# Altium integrated library DIPLOM.IntLib: 12 symbols
Pins are listed as number, name and electrical type; pins without a type are passive.

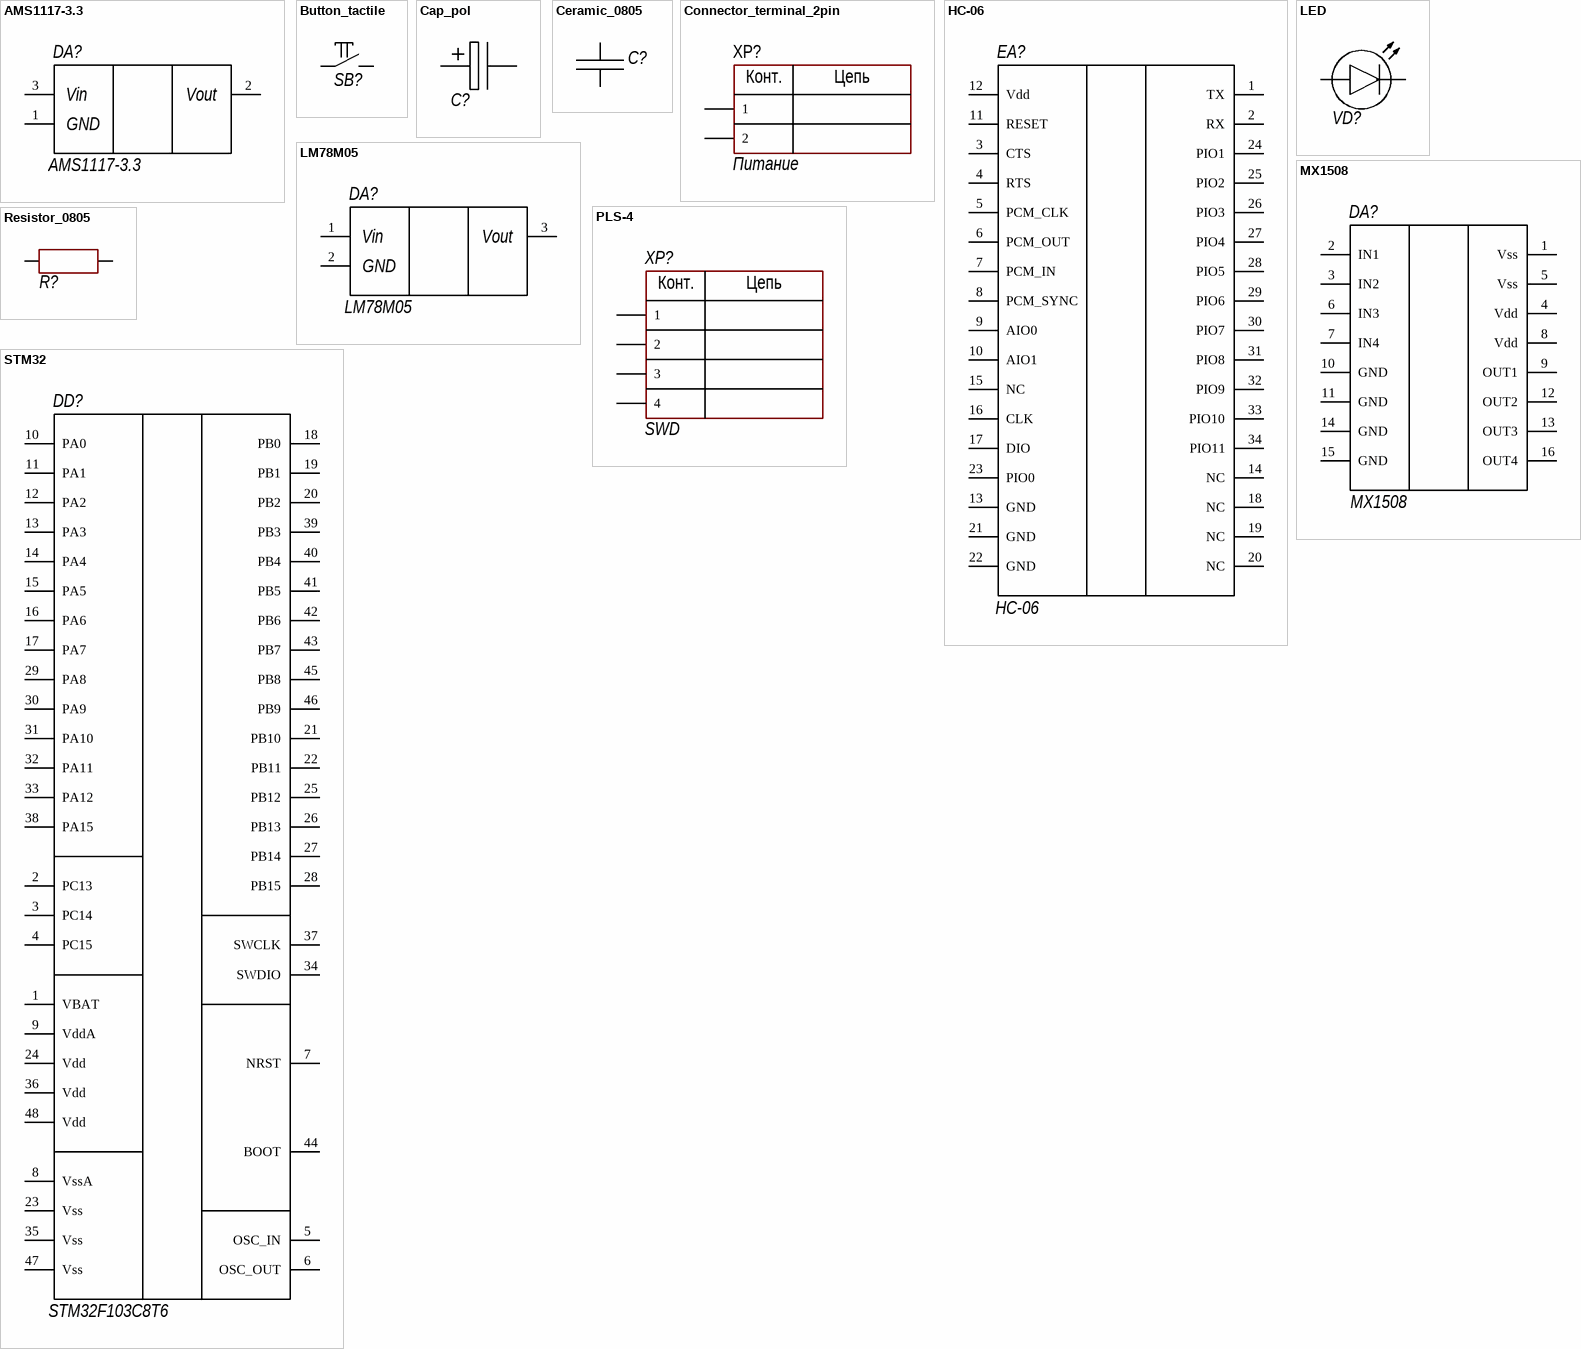
[diagram p0: symbols AMS1117-3.3 to STM32]

## AMS1117-3.3
designator DA?
footprint SOT-223 (SOT-223/SC-73; 4 Leads; Body 6.7 x 7.3 mm, inc. leads (LxW max))
pins: 1, 2, 3
text: Vin; Vout; GND

## Button_tactile
designator SB?
Manufacturer: TE Connectivity; ValueManufacturerPartNumber: Tactile button, 6x6mm; PartNumber: FSM2JSMAATR; TypeButton: Tactile button; CommentText: "Кнопка"; HelpURL: https://www.digikey.com/product-detail/en/te-connectivity-alcoswitch-switches/FSM2JSMAATR/450-1792-1-ND/3503931; Package: 6x6mm
footprint BUT: 6x6 (Leaded Tactile Button 6x6)
footprint BUT: 6x6 SMD (Leaded Tactile Button 6x6)
footprint BUT: SKQGADE010
pins: 1, 2

## Cap_pol
designator C?  (value not drawn)
footprint Cap_smd
pins: 1 3, 2 4

## Ceramic_0805
designator C?
Manufacturer: Yageo; PartNumber: CC0805KRX7R7BB104; ValueManufacturerPartNumber: Ceramic capacitor, 0,33 мкФ, X7R, ±10%, 50 В, 0805, -55...+125°C; TypeCapacitor: Ceramic capacitor; Tolerance: ±10%; TypeDielectric: X7R; Voltage: 50 В; Value: 0,33 мкФ; Package: 0805; HelpURL: https://www.digikey.com/product-detail/en/yageo/CC0805KRX7R7BB104/311-1142-1-ND/303052; Temperature: -55...+125°C
footprint CAP: 0805
pins: 1 (power), 2 (power)

## Connector_terminal_2pin
designator XP?  CommentText: Питание
Manufacturer: Degson; ValueManufacturerPartNumber: Terminal connector, 2pin, 3.5mm, 300VAC, 10A; PartNumber: DG350-3.5-02P-14; TypeConnector: Terminal connector; VoltageMax: 300VAC; Pitch: 3.5mm; CurrentMax: 10A; Multichannel: 2pin; HelpURL: https://www.chipdip.ru/product/dg350-3.5-02p-12
footprint CON: 1911017 (Phoenix)
footprint CON: 0395430002 (5 mm) (2 pin 5.08mm screw connector)
footprint CON: DG350-3.5-02P
footprint Conector 2.54
pins: 1, 2
text: Конт.; Цепь

## HC-06
designator EA?
footprint HC-06
pins: 1 TX, 2 RX, 3 CTS, 4 RTS, 5 PCM_CLK, 6 PCM_OUT, 7 PCM_IN, 8 PCM_SYNC, 9 AIO0, 10 AIO1, 11 RESET, 12 Vdd, 13 GND, 14 NC, 15 NC, 16 CLK, 17 DIO, 18 NC, 19 NC, 20 NC, 21 GND, 22 GND, 23 PIO0, 24 PIO1, 25 PIO2, 26 PIO3, 27 PIO4, 28 PIO5, 29 PIO6, 30 PIO7, 31 PIO8, 32 PIO9, 33 PIO10, 34 PIO11

## LED
designator VD?  (value not drawn)
footprint LD0805
footprint LD1206
pins: 1 A, 2 K

## LM78M05
designator DA?
footprint TO252
pins: 1, 2, 3
text: Vin; Vout; GND

## MX1508
designator DA?
footprint SO-16
pins: 1 Vss, 2 IN1, 3 IN2, 4 Vdd, 5 Vss, 6 IN3, 7 IN4, 8 Vdd, 9 OUT1, 10 GND, 11 GND, 12 OUT2, 13 OUT3, 14 GND, 15 GND, 16 OUT4

## PLS-4
designator XP?  CommentText: SWD
Manufacturer: Connfly; ValueManufacturerPartNumber: Connector, 4pin, 2.54mm, 500VAC, 3A; PartNumber: PLS-4; TypeConnector: Connector; VoltageMax: 500VAC; Pitch: 2.54mm; CurrentMax: 3A; Multichannel: 4pin; HelpURL: https://www.chipdip.ru/product/pls-4
footprint CON: PLS-4 (PLS-40 4 pin header)
pins: 1, 2, 3 (power), 4 (power)
text: Конт.; Цепь

## Resistor_0805
designator R?
Manufacturer: Yageo; PartNumber: RC0805JR-07100RL; ValueManufacturerPartNumber: Resistor film, 4,7 кОм, ±1%, 0805, 0.125W, -55...+125°C; TypeResistor: Resistor film; Power: 0.125W; Tolerance: ±1%; Value: 4,7 кОм; Package: 0805; HelpURL: https://www.digikey.com/product-detail/en/yageo/RC0805JR-07100RL/311-100ARCT-ND/731185; Temperature: -55...+125°C
footprint RES: 0805
pins: 1, 2

## STM32
designator DD?, comment STM32F103C8T6
footprint LQFP-48 (Thin QFP, 48-Leads, Body 7x7mm, Pitch 0.5mm, IPC Medium Density)
pins: 1 VBAT, 2 PC13, 3 PC14, 4 PC15, 5 OSC_IN, 6 OSC_OUT, 7 NRST, 8 VssA, 9 VddA, 10 PA0, 11 PA1, 12 PA2, 13 PA3, 14 PA4, 15 PA5, 16 PA6, 17 PA7, 18 PB0, 19 PB1, 20 PB2, 21 PB10, 22 PB11, 23 Vss, 24 Vdd, 25 PB12, 26 PB13, 27 PB14, 28 PB15, 29 PA8, 30 PA9, 31 PA10, 32 PA11, 33 PA12, 34 SWDIO, 35 Vss, 36 Vdd, 37 SWCLK, 38 PA15, 39 PB3, 40 PB4, 41 PB5, 42 PB6, 43 PB7, 44 BOOT, 45 PB8, 46 PB9, 47 Vss, 48 Vdd